# EAGLE library part CY8C24894 (library cypress_psoc)
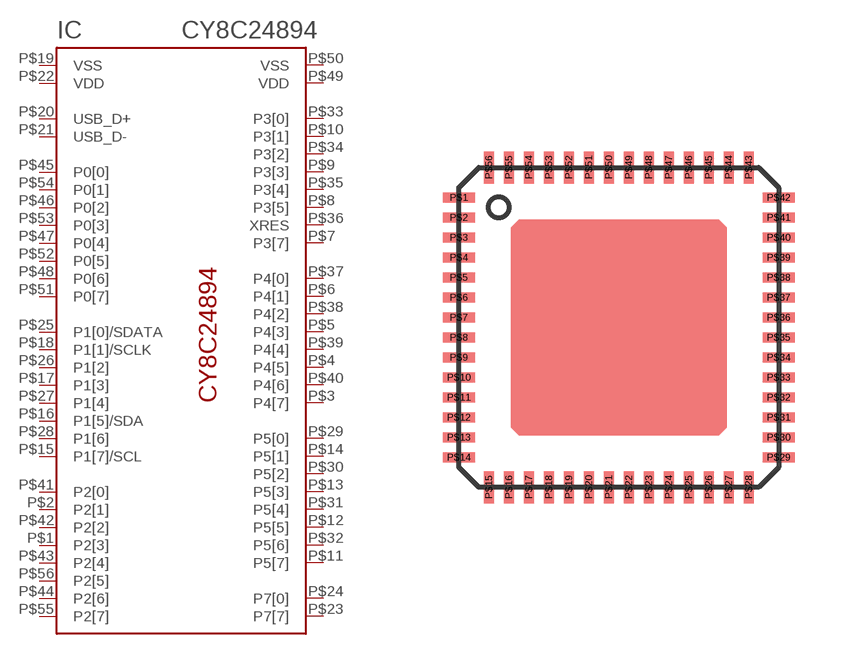
[diagram p4: symbol with the pads of QFN56; footprint QFN56]

Designator prefix IC

## CY8C24894  [QFN56]
P$1  P2[3]
P$2  P2[1]
P$3  P4[7]
P$4  P4[5]
P$5  P4[3]
P$6  P4[1]
P$7  P3[7]
P$8  P3[5]
P$9  P3[3]
P$10  P3[1]
P$11  P5[7]
P$12  P5[5]
P$13  P5[3]
P$14  P5[1]
P$15  P1[7]/SCL
P$16  P1[5]/SDA
P$17  P1[3]
P$18  P1[1]/SCLK
P$19  VSS  pwr
P$20  USB_D+
P$21  USB_D-
P$22  VDD  pwr
P$23  P7[7]
P$24  P7[0]
P$25  P1[0]/SDATA
P$26  P1[2]
P$27  P1[4]
P$28  P1[6]
P$29  P5[0]
P$30  P5[2]
P$31  P5[4]
P$32  P5[6]
P$33  P3[0]
P$34  P3[2]
P$35  P3[4]
P$36  XRES  in
P$37  P4[0]
P$38  P4[2]
P$39  P4[4]
P$40  P4[6]
P$41  P2[0]
P$42  P2[2]
P$43  P2[4]
P$44  P2[6]
P$45  P0[0]
P$46  P0[2]
P$47  P0[4]
P$48  P0[6]
P$49  VDD  pwr
P$50  VSS  pwr
P$51  P0[7]
P$52  P0[5]
P$53  P0[3]
P$54  P0[1]
P$55  P2[7]
P$56  P2[5]

## Footprint QFN56 (pad centres in mm)
smd 0.8 x 0.25: P$1 -4,3.25; P$2 -4,2.75; P$3 -4,2.25; P$4 -4,1.75; P$5 -4,1.25; P$6 -4,0.75; P$7 -4,0.25; P$8 -4,-0.25; P$9 -4,-0.75; P$10 -4,-1.25; P$11 -4,-1.75; P$12 -4,-2.25; P$13 -4,-2.75; P$14 -4,-3.25; P$29 4,-3.25; P$30 4,-2.75; P$31 4,-2.25; P$32 4,-1.75; P$33 4,-1.25; P$34 4,-0.75; P$35 4,-0.25; P$36 4,0.25; P$37 4,0.75; P$38 4,1.25; P$39 4,1.75; P$40 4,2.25; P$41 4,2.75; P$42 4,3.25
smd 0.25 x 0.8: P$15 -3.25,-4; P$16 -2.75,-4; P$17 -2.25,-4; P$18 -1.75,-4; P$19 -1.25,-4; P$20 -0.75,-4; P$21 -0.25,-4; P$22 0.25,-4; P$23 0.75,-4; P$24 1.25,-4; P$25 1.75,-4; P$26 2.25,-4; P$27 2.75,-4; P$28 3.25,-4; P$43 3.25,4; P$44 2.75,4; P$45 2.25,4; P$46 1.75,4; P$47 1.25,4; P$48 0.75,4; P$49 0.25,4; P$50 -0.25,4; P$51 -0.75,4; P$52 -1.25,4; P$53 -1.75,4; P$54 -2.25,4; P$55 -2.75,4; P$56 -3.25,4